# Altium schematic symbol library Schlib1.SchLib: 5 symbols
Pins are listed as number, name and electrical type; pins without a type are passive.

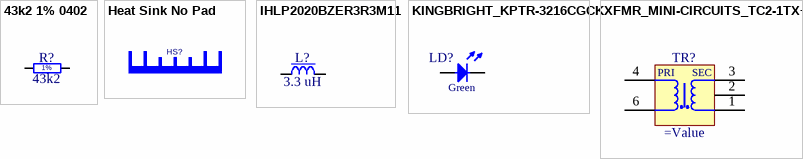
[diagram p0: symbols 43k2 1% 0402 to XFMR_MINI-CIRCUITS_TC2-1TX+]

## 43k2 1% 0402
designator R?, comment 43k2
Resistor - 1%; Power: 0.063W; Value: 43k2; Tolerance: ±1%; Case: 0402
footprint RESC1005X35N (Chip Resistor, EIA 0402, Metric 1005, Body 1.0x0.5mm, IPC Medium Density)
pins: 1, 2
text: 1%

## Heat Sink No Pad
designator HS?  (value not drawn)
Heat Sink Without Pad; Manufacturer: Fischer Elektronik; Manufacturer Part Number: ICK BGA 23 x 23 x 10; Part Description: 23 x 23 x 10 mm, heatsink for IC design BGA and others; ComponentHeight: 10 mm; HelpURL: http://www.fischerelektronik.de/web_fischer/en_GB/heatsinks/B02/Heatsinks%20for%20BGAs/PR/ICKBGA23x23x10_/$productCard/parameters/datasheet.xhtml
footprint ICK BGA 23 x 23 x 10 (23 x 23 x 10 mm, heatsink for IC design BGA and others)

## IHLP2020BZER3R3M11
designator L?, comment 3.3 uH
Inductor With Core; Part Number: IHLP2020BZER3R3M11; Manufacturer: Vishay; Power: 4.1 A; Series Resistance: 57.8 mOhm; Tolerance: 20%; Value: 3.3 uH; HelpURL: http://datasheet.octopart.com/IHLP2020BZER3R3M11-Vishay-datasheet-68298978.pdf; Supplier 1: Farnell
footprint IHLP-2020BZ-11
pins: 1, 2

## KINGBRIGHT_KPTR-3216CGCK
designator LD?
LED Green 1A 2C; Manufacturer Part Number: KPH-1608CGCK; ComponentHeight: 0.65mm; Package Description: SMT Green LED, Case 0603, Body L 1.6 x W 0.8mm H 0.65mm; HelpURL: http://datasheet.octopart.com/KPH-1608CGCK-Kingbright-datasheet-62316526.pdf
footprint LED_KINGBRIGHT_KPH-1608CGCK (SMT Green LED, Case 0603, Body L 1.6 x W 0.8mm H 0.65mm)
pins: 1 A, 2 C
text: Green

## XFMR_MINI-CIRCUITS_TC2-1TX+
designator TR?
50 Ohm 3 to 300MHz RF Transformers; Manufacturer: MINI-CIRCUITS; Manufacturer Part Number: TC2-1TX+; HelpURL: https://ww2.minicircuits.com/pdfs/TC2-1TX+.pdf
footprint XFMR_MINI-CIRCUITS_AT1521 (MINI-CIRCUITS RF Transformer, Case AT1521, Body 3.81X3.81mm)
pins: 1 SDOT, 2 NU, 3 S, 4 P, 6 PDOT
text: PRI; SEC